# EAGLE library part 2908-05WB-MG (library ADC)
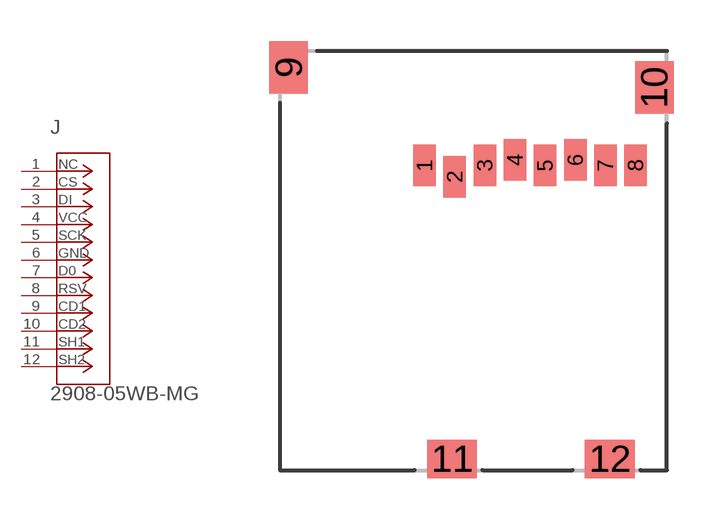
[diagram p1: symbol with the pads of CONN_3M_2900; footprint CONN_3M_2900]

Designator prefix J

## 2908-05WB-MG (COPYRIGHT: Copyright (C) 2021 Ultra Librarian. All rights reserved.; DIGI-KEY_PART_NUMBER_1: 3M5607TR-ND; DIGI-KEY_PART_NUMBER_2: 3M5607CT-ND; DIGI-KEY_PART_NUMBER_3: 3M5607DKR-ND; MANUFACTURER_PART_NUMBER: 2908-05WB-MG; MFR_NAME: 3M)  [CONN_3M_2900]
1  1  nc
2  2  pas
3  3  pas
4  4  pas
5  5  pas
6  6  pas
7  7  pas
8  8  nc
9  9  nc
10  10  nc
11  11  pas
12  12  pas

## Footprint CONN_3M_2900 (pad centres in mm)
smd 0.813 x 1.499: 1 -1.772,3.449; 2 -0.68,3.042; 3 0.412,3.449; 4 1.505,3.652; 5 2.597,3.449; 6 3.689,3.652; 7 4.781,3.449; 8 5.873,3.449
smd 1.397 x 1.905: 9 -6.693,6.998; 10 6.551,6.276
smd 1.803 x 1.397: 11 -0.775,-7.188; 12 4.94,-7.188